# Altium footprint library TLV9062IDDFR.PcbLib: 3 footprints
Each footprint in its own frame and in the unit in brackets; x right, y up, seen from the top. Pads: shape width x height; smd on the part's side, far side on the other; paste and mask are expansions set on the pad; w line width, h text height; cw(c..) or ccw(c..) is an arc to the next point about the centre after c.
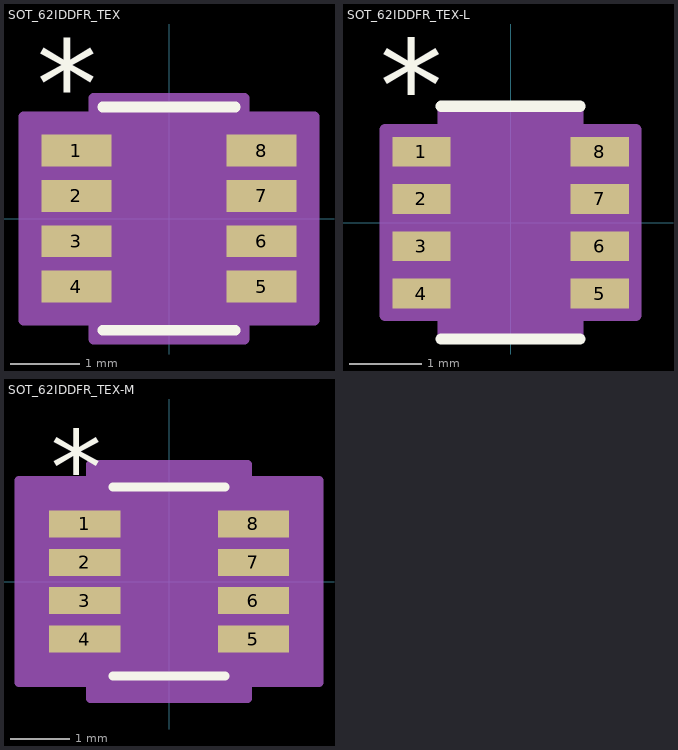
[diagram p0: the footprints below, top view; thin cyan lines are the x and y axes]

## SOT_62IDDFR_TEX [mil]
pads (8):
  rect 39.5x18 smd paste+0 mask+0: 1(-52.25,38.38) 2(-52.25,12.79) 3(-52.25,-12.79) 4(-52.25,-38.38) 5(52.25,-38.38) 6(52.25,-12.79) 7(52.25,12.79) 8(52.25,38.38)
Top Overlay:
  lines w6: -37.5,-63 37.5,-63 ; -37.5,63 37.5,63
  text "*" at -74.75,51.38 h50
Mechanical 13:
  lines w0: -12,58 ccw(c0,58) 12,58
  lines w1: -58,-46.38 -32.5,-46.38 -32.5,-30.39 -58,-30.39 -58,-46.38 ; -58,-20.8 -32.5,-20.8 -32.5,-4.79 -58,-4.79 -58,-20.8 ; -58,4.79 -32.5,4.79 -32.5,20.8 -58,20.8 -58,4.79 ; -58,30.39 -32.5,30.39 -32.5,46.38 -58,46.38 -58,30.39 ; -32.5,-58 -32.5,58 32.5,58 32.5,-58 -32.5,-58 ; 32.5,-46.38 58,-46.38 58,-30.39 32.5,-30.39 32.5,-46.38 ; 32.5,-20.8 58,-20.8 58,-4.79 32.5,-4.79 32.5,-20.8 ; 32.5,4.79 58,4.79 58,20.8 32.5,20.8 32.5,4.79 ; 32.5,30.39 58,30.39 58,46.38 32.5,46.38 32.5,30.39
  text "*" at -30,5 h50
Mechanical 15:
  region: -42.5,-57.38 -82,-57.38 -82,57.38 -42.5,57.38 -42.5,68 42.5,68 42.5,57.38 82,57.38 82,-57.38 42.5,-57.38 42.5,-68 -42.5,-68
  lines w6: -82,-57.38 -42.5,-57.38 -42.5,-68 42.5,-68 42.5,-57.38 82,-57.38 82,57.38 42.5,57.38 42.5,68 -42.5,68 -42.5,57.38 -82,57.38 -82,-57.38
3D body "SOT_62IDDFR_TEX.step": height 43.11, standoff 0, extent -57.99,-57.99 57.99,57.99

## SOT_62IDDFR_TEX-L [mil]
pads (8):
  rect 31.5x16 smd paste+0 mask+0: 1(-48.25,38.38) 2(-48.25,12.79) 3(-48.25,-12.79) 4(-48.25,-38.38) 5(48.25,-38.38) 6(48.25,-12.79) 7(48.25,12.79) 8(48.25,38.38)
Top Overlay:
  lines w6: -37.5,-63 37.5,-63 ; -37.5,63 37.5,63
  text "*" at -70.75,49.38 h50
Mechanical 13:
  lines w0: -12,58 ccw(c0,58) 12,58
  lines w1: -58,-46.38 -58,-30.39 -32.5,-30.39 -32.5,-46.38 -58,-46.38 ; -58,-20.8 -58,-4.79 -32.5,-4.79 -32.5,-20.8 -58,-20.8 ; -58,4.79 -58,20.8 -32.5,20.8 -32.5,4.79 -58,4.79 ; -58,30.39 -58,46.38 -32.5,46.38 -32.5,30.39 -58,30.39 ; -32.5,-58 32.5,-58 32.5,58 -32.5,58 -32.5,-58 ; 32.5,-46.38 32.5,-30.39 58,-30.39 58,-46.38 32.5,-46.38 ; 32.5,-20.8 32.5,-4.79 58,-4.79 58,-20.8 32.5,-20.8 ; 32.5,4.79 32.5,20.8 58,20.8 58,4.79 32.5,4.79 ; 32.5,30.39 32.5,46.38 58,46.38 58,30.39 32.5,30.39
  text "*" at -30,5 h50
Mechanical 15:
  region: -36.5,-50.38 -68,-50.38 -68,50.38 -36.5,50.38 -36.5,62 36.5,62 36.5,50.38 68,50.38 68,-50.38 36.5,-50.38 36.5,-62 -36.5,-62
  lines w6: -68,-50.38 -68,50.38 -36.5,50.38 -36.5,62 36.5,62 36.5,50.38 68,50.38 68,-50.38 36.5,-50.38 36.5,-62 -36.5,-62 -36.5,-50.38 -68,-50.38
3D body "SOT_62IDDFR_TEX.step": height 43.11, standoff 0, extent -57.99,-57.99 57.99,57.99

## SOT_62IDDFR_TEX-M [mil]
pads (8):
  rect 47.5x18 smd paste+0 mask+0: 1(-56.25,38.38) 2(-56.25,12.79) 3(-56.25,-12.79) 4(-56.25,-38.38) 5(56.25,-38.38) 6(56.25,-12.79) 7(56.25,12.79) 8(56.25,38.38)
Top Overlay:
  lines w6: -37.5,-63 37.5,-63 ; -37.5,63 37.5,63
  text "*" at -78.75,51.38 h50
Mechanical 13:
  lines w0: -12,58 ccw(c0,58) 12,58
  lines w1: -58,-46.38 -32.5,-46.38 -32.5,-30.39 -58,-30.39 -58,-46.38 ; -58,-20.8 -32.5,-20.8 -32.5,-4.79 -58,-4.79 -58,-20.8 ; -58,4.79 -32.5,4.79 -32.5,20.8 -58,20.8 -58,4.79 ; -58,30.39 -32.5,30.39 -32.5,46.38 -58,46.38 -58,30.39 ; -32.5,-58 -32.5,58 32.5,58 32.5,-58 -32.5,-58 ; 32.5,-46.38 58,-46.38 58,-30.39 32.5,-30.39 32.5,-46.38 ; 32.5,-20.8 58,-20.8 58,-4.79 32.5,-4.79 32.5,-20.8 ; 32.5,4.79 58,4.79 58,20.8 32.5,20.8 32.5,4.79 ; 32.5,30.39 58,30.39 58,46.38 32.5,46.38 32.5,30.39
  text "*" at -30,5 h50
Mechanical 15:
  region: -52.5,-67.39 -100,-67.39 -100,67.39 -52.5,67.39 -52.5,78 52.5,78 52.5,67.39 100,67.39 100,-67.39 52.5,-67.39 52.5,-78 -52.5,-78
  lines w6: -100,-67.39 -52.5,-67.39 -52.5,-78 52.5,-78 52.5,-67.39 100,-67.39 100,67.39 52.5,67.39 52.5,78 -52.5,78 -52.5,67.39 -100,67.39 -100,-67.39
3D body "SOT_62IDDFR_TEX.step": height 43.11, standoff 0, extent -57.99,-57.99 57.99,57.99